# EAGLE library part DRV8301 (library pavlo)
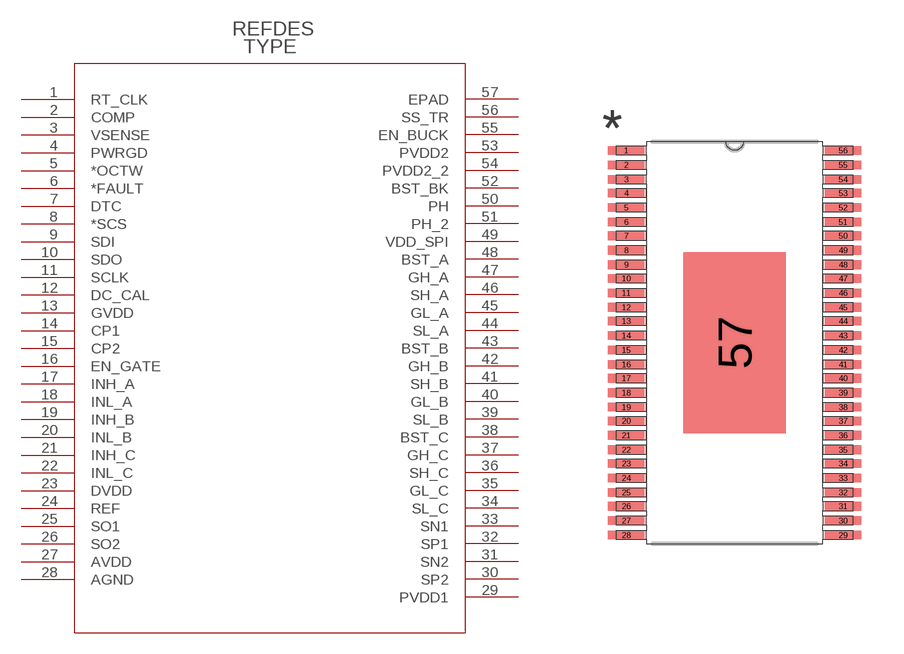
[diagram p6: symbol with the pads of DCA56_6P35X3P61; footprint DCA56_6P35X3P61]

Designator prefix -

## DRV8301  [DCA56_6P35X3P61]
1  RT_CLK  pas
2  COMP  pas
3  VSENSE  pas
4  PWRGD  pas
5  *OCTW  pas
6  *FAULT  pas
7  DTC  pas
8  *SCS  pas
9  SDI  pas
10  SDO  pas
11  SCLK  pas
12  DC_CAL  pas
13  GVDD  pas
14  CP1  pas
15  CP2  pas
16  EN_GATE  pas
17  INH_A  pas
18  INL_A  pas
19  INH_B  pas
20  INL_B  pas
21  INH_C  pas
22  INL_C  pas
23  DVDD  pas
24  REF  pas
25  SO1  pas
26  SO2  pas
27  AVDD  pas
28  AGND  pas
29  PVDD1  pas
30  SP2  pas
31  SN2  pas
32  SP1  pas
33  SN1  pas
34  SL_C  pas
35  GL_C  pas
36  SH_C  pas
37  GH_C  pas
38  BST_C  pas
39  SL_B  pas
40  GL_B  pas
41  SH_B  pas
42  GH_B  pas
43  BST_B  pas
44  SL_A  pas
45  GL_A  pas
46  SH_A  pas
47  GH_A  pas
48  BST_A  pas
49  VDD_SPI  pas
50  PH  pas
51  PH_2  pas
52  BST_BK  pas
53  PVDD2  pas
54  PVDD2_2  pas
55  EN_BUCK  pas
56  SS_TR  pas
57  EPAD  pas

## Footprint DCA56_6P35X3P61 (pad centres in mm)
smd 1.27 x 0.305: 1 -3.81,6.756; 2 -3.81,6.248; 3 -3.81,5.74; 4 -3.81,5.258; 5 -3.81,4.75; 6 -3.81,4.242; 7 -3.81,3.759; 8 -3.81,3.251; 9 -3.81,2.743; 10 -3.81,2.261; 11 -3.81,1.753; 12 -3.81,1.245; 13 -3.81,0.762; 14 -3.81,0.254; 15 -3.81,-0.254; 16 -3.81,-0.762; 17 -3.81,-1.245; 18 -3.81,-1.753; 19 -3.81,-2.261; 20 -3.81,-2.743; 21 -3.81,-3.251; 22 -3.81,-3.759; 23 -3.81,-4.242; 24 -3.81,-4.75; 25 -3.81,-5.258; 26 -3.81,-5.74; 27 -3.81,-6.248; 28 -3.81,-6.756; 29 3.81,-6.756; 30 3.81,-6.248; 31 3.81,-5.74; 32 3.81,-5.258; 33 3.81,-4.75; 34 3.81,-4.242; 35 3.81,-3.759; 36 3.81,-3.251; 37 3.81,-2.743; 38 3.81,-2.261; 39 3.81,-1.753; 40 3.81,-1.245; 41 3.81,-0.762; 42 3.81,-0.254; 43 3.81,0.254; 44 3.81,0.762; 45 3.81,1.245; 46 3.81,1.753; 47 3.81,2.261; 48 3.81,2.743; 49 3.81,3.251; 50 3.81,3.759; 51 3.81,4.242; 52 3.81,4.75; 53 3.81,5.258; 54 3.81,5.74; 55 3.81,6.248; 56 3.81,6.756
smd 3.607 x 6.35: 57 0,0